# EAGLE library part SST39VF1681 (library flash)
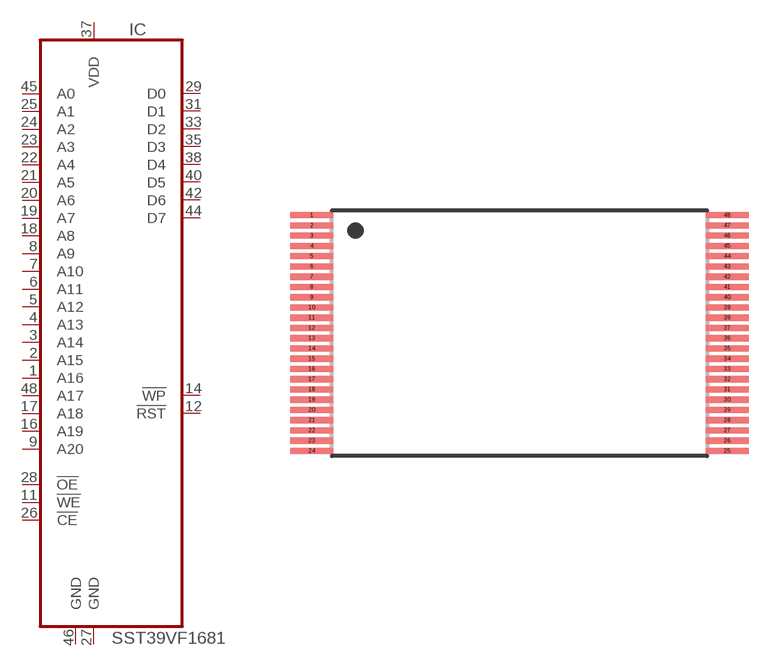
[diagram p0: symbol with the pads of TSOP48; footprint TSOP48]

Designator prefix IC

## SST39VF1681  [TSOP48]
1  A16  in
2  A15  in
3  A14  in
4  A13  in
5  A12  in
6  A11  in
7  A10  in
8  A9  in
9  A20  in
11  !WE  in
12  !RST
14  !WP
16  A19  in
17  A18  in
18  A8  in
19  A7  in
20  A6  in
21  A5  in
22  A4  in
23  A3  in
24  A2  in
25  A1  in
26  !CE  in
27  GND  pwr
28  !OE  in
29  D0
31  D1
33  D2
35  D3
37  VDD  pwr
38  D4
40  D5
42  D6
44  D7
45  A0  in
46  GND  pwr
48  A17  in

## Footprint TSOP48 (pad centres in mm)
48-Lead Thin Small Outline Package (TSOP) 12mm x 20mm SST Package Code: EK Source: http://www.sst.com/dotAsset/40687.pdf
smd 2.1 x 0.3: 1 -10.125,5.75; 2 -10.125,5.25; 3 -10.125,4.75; 4 -10.125,4.25; 5 -10.125,3.75; 6 -10.125,3.25; 7 -10.125,2.75; 8 -10.125,2.25; 9 -10.125,1.75; 10 -10.125,1.25; 11 -10.125,0.75; 12 -10.125,0.25; 13 -10.125,-0.25; 14 -10.125,-0.75; 15 -10.125,-1.25; 16 -10.125,-1.75; 17 -10.125,-2.25; 18 -10.125,-2.75; 19 -10.125,-3.25; 20 -10.125,-3.75; 21 -10.125,-4.25; 22 -10.125,-4.75; 23 -10.125,-5.25; 24 -10.125,-5.75; 25 10.125,-5.75; 26 10.125,-5.25; 27 10.125,-4.75; 28 10.125,-4.25; 29 10.125,-3.75; 30 10.125,-3.25; 31 10.125,-2.75; 32 10.125,-2.25; 33 10.125,-1.75; 34 10.125,-1.25; 35 10.125,-0.75; 36 10.125,-0.25; 37 10.125,0.25; 38 10.125,0.75; 39 10.125,1.25; 40 10.125,1.75; 41 10.125,2.25; 42 10.125,2.75; 43 10.125,3.25; 44 10.125,3.75; 45 10.125,4.25; 46 10.125,4.75; 47 10.125,5.25; 48 10.125,5.75